# Altium footprint library E104-BT5005A-V1.0.PcbLib: 1 footprints
Each footprint in its own frame and in the unit in brackets; x right, y up, seen from the top. Pads: shape width x height; smd on the part's side, far side on the other; paste and mask are expansions set on the pad; w line width, h text height; cw(c..) or ccw(c..) is an arc to the next point about the centre after c.
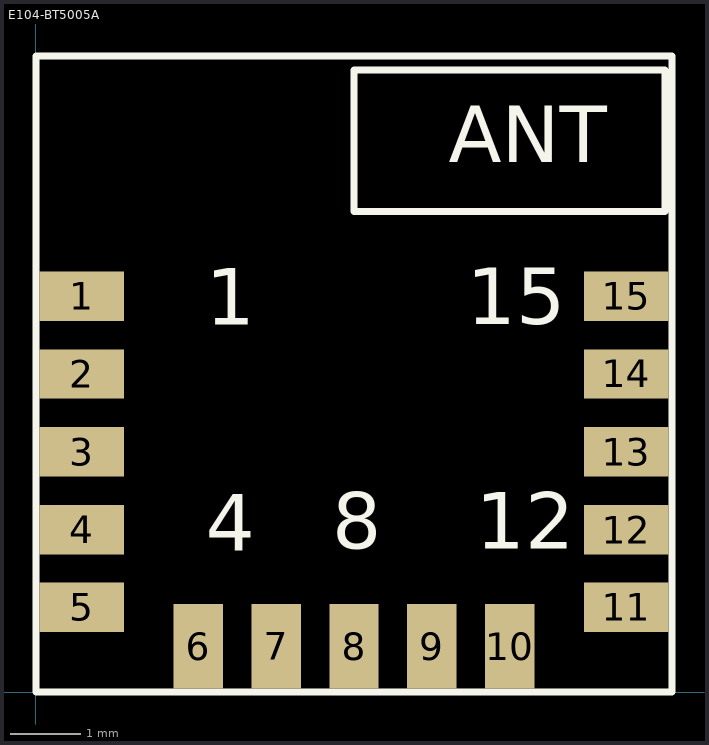
[diagram p0: the footprint, top view; thin cyan lines are the x and y axes]

## E104-BT5005A [mm]
pads (15):
  rect 1.2x0.7 smd: 1(0.65,5.6) 2(0.65,4.5) 3(0.65,3.4) 4(0.65,2.3) 5(0.65,1.2) 11(8.35,1.2) 12(8.35,2.3) 13(8.35,3.4) 14(8.35,4.5) 15(8.35,5.6)
  rect 0.7x1.2 smd: 6(2.3,0.65) 7(3.4,0.65) 8(4.5,0.65) 9(5.6,0.65) 10(6.7,0.65)
Top Overlay:
  lines w0.1: 0,0 0,0.5 0,9 9,9 9,0 8.5,0 0,0 ; 4.5,6.8 8.9,6.8 8.9,8.8 4.5,8.8 4.5,6.8
  text "ANT" at 5.842,7.493 h0.8
  text "15" at 6.096,5.207 h0.8
  text "12" at 6.223,2.032 h0.8
  text "8" at 4.191,2.032 h0.8
  text "4" at 2.4,2 h0.8
  text "1" at 2.4,5.2 h0.8